# Altium schematic symbol library Opto.SchLib: 5 symbols
Pins are listed as number, name and electrical type; pins without a type are passive.

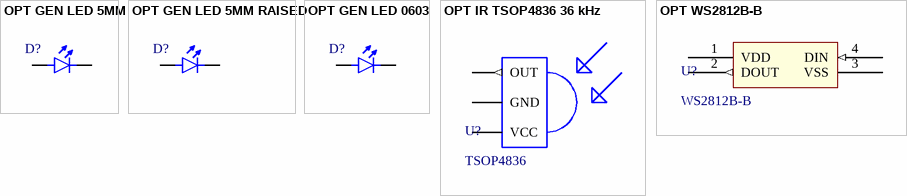
[diagram p0: symbols OPT GEN LED 5MM to OPT WS2812B-B]

## OPT GEN LED 5MM
designator D?
footprint THT LED 5MM
pins: A, K

## OPT GEN LED 5MM RAISED
designator D?
footprint THT LED 5MM RAISED
pins: A, K

## OPT GEN LED 0603
designator D?
footprint SMD 0603 LED
pins: A, K

## OPT IR TSOP4836 36 kHz
designator U?, comment TSOP4836
footprint THT OPT IR TSOP4836
pins: 1 OUT (out), 2 GND (power), 3 VCC (power)

## OPT WS2812B-B
designator U?, comment WS2812B-B
footprint SMD WS2812B-B
pins: 1 VDD (power), 2 DOUT (out), 3 VSS (power), 4 DIN (in)